# Altium footprint library User.PcbLib: 5 footprints
Each footprint in its own frame and in the unit in brackets; x right, y up, seen from the top. Pads: shape width x height; smd on the part's side, far side on the other; paste and mask are expansions set on the pad; w line width, h text height; cw(c..) or ccw(c..) is an arc to the next point about the centre after c.
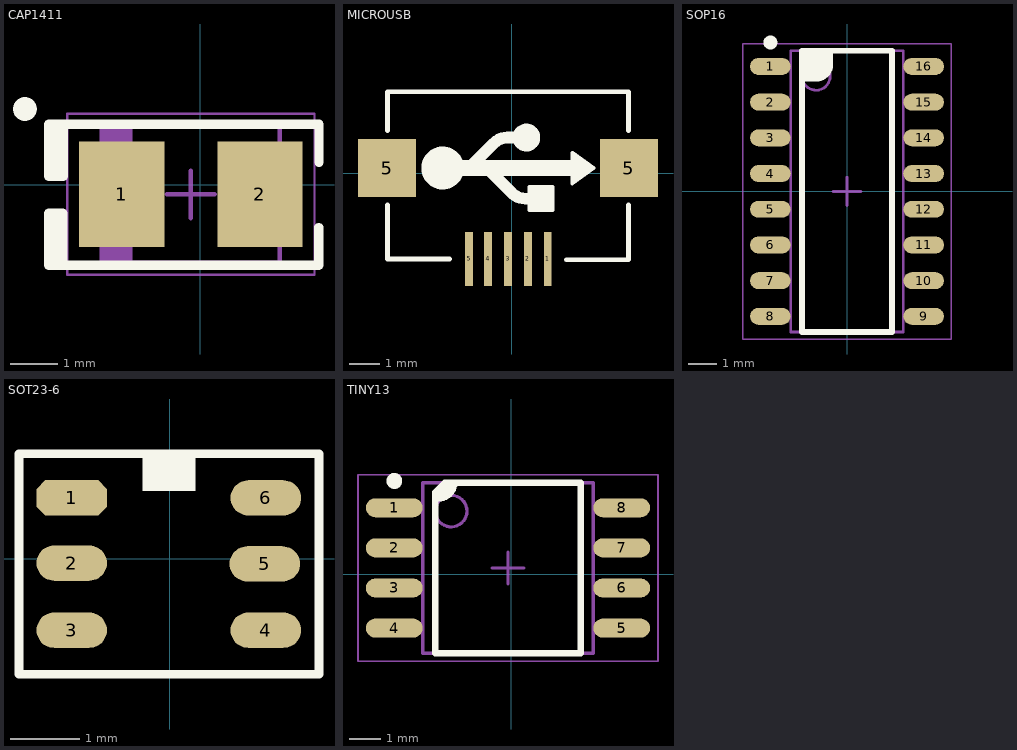
[diagram p0: the footprints below, top view; thin cyan lines are the x and y axes]

## CAP1411 [mm]
pads (2):
  rect 1.8x2.23 smd: 1(-1.66,-0.2) 2(1.26,-0.2)
Top Overlay:
  circle w0.25: c-3.7,1.6 r0.125
  region: -3.195,0.18 -3.195,1.28 -2.895,1.28 -2.895,0.18
  region: -3.2,-0.6 -3.2,-1.7 -2.9,-1.7 -2.9,-0.6
  lines w0.2: 2.5,-0.9 2.5,-1.7 -2.9,-1.7 ; 2.505,0.48 2.505,1.28 -2.895,1.28 ; -2.9,-1.7 -3.2,-1.7 -3.2,-0.6 -2.9,-0.6 -2.9,-1.7 ; -2.895,1.28 -3.195,1.28 -3.195,0.18 -2.895,0.18 -2.895,1.28
Mechanical 13:
  rectangle: -2.075,-1.65 -1.425,1.25
  lines w0.1: -2.075,-1.65 -2.075,1.25 1.675,1.25 1.675,-1.65 -2.075,-1.65
Mechanical 15:
  lines w0.05: -2.81,-1.9 -2.81,1.5 2.41,1.5 2.41,-1.9 -2.81,-1.9
  lines w0.1: -0.7,-0.2 0.3,-0.2 ; -0.2,-0.7 -0.2,0.3
3D body "CAP TANT - 1411 - 2.0MM.step": height 2, standoff 0, extent -2.065,-1.65 1.665,1.25

## MICROUSB [mil]
pads (7):
  rect 10x70 smd: 1(46.18,-110) 2(20.59,-110) 3(-5,-110) 4(-30.59,-110) 5(-55,-110)
  rect 74.8x74.8 smd: 5(-160.51,6.84) 5(150.51,6.84)
Top Overlay:
  circle w20: c18.56,46.21 r7.87
  circle w35: c-89.07,7 r10
  region: 52.03,-47.13 22.5,-47.13 22.5,-17.61 52.03,-17.61
  region: 105.18,7 77.62,-12.69 77.62,26.68
  lines w5: 22.5,-47.13 52.03,-47.13 52.03,-17.61 22.5,-17.61 22.5,-47.13 ; 77.62,-12.69 77.62,26.68 105.18,7 77.62,-12.69
  lines w6: -160,-40.2 -160,-110 -80,-110 ; -160,54.84 -160,105 150,105 150,54.84 ; 70,-111 150,-111 150,-40.2
  lines w15: -57.85,4.46 -23.48,38.83 cw(c-5.65,21) -5.65,46.21 17.5,46.21 ; -29.7,4.54 -0.17,-24.99 ccw(c17.66,-7.16) 17.66,-32.37 37.5,-32.37
  lines w20: -87.5,7 87.5,7
3D body "Micro USB.STP": height 106.7, standoff -9.04, extent -161.58,-105.49 152.59,108.29

## SOP16 [mm]
pads (16):
  oval 1.45x0.6 smd: 1(-2.732,4.442) 2(-2.732,3.172) 3(-2.732,1.902) 4(-2.732,0.632) 5(-2.732,-0.638) 6(-2.732,-1.908) 7(-2.732,-3.178) 8(-2.732,-4.448) 9(2.718,-4.448) 10(2.718,-3.178) 11(2.718,-1.908) 12(2.718,-0.638) 13(2.718,0.632) 14(2.718,1.902) 15(2.718,3.172) 16(2.718,4.442)
Top Overlay:
  circle w0.25: c-2.732,5.292 r0.125
  region: -1.607,4.997 -1.607,3.997 -1.007,3.997 -0.607,4.397 -0.607,4.997
  lines w0.2: -1.607,3.997 -1.107,3.997 ccw(c-1.107,4.497) -0.607,4.497 -0.607,4.997 ; -1.607,-5.003 -1.607,4.997 1.593,4.997 1.593,-5.003 -1.607,-5.003
Mechanical 13:
  circle w0.1: c-1.107,4.097 r0.5
  lines w0.1: -2.007,-5.003 -2.007,4.997 1.993,4.997 1.993,-5.003 -2.007,-5.003
Mechanical 15:
  lines w0.05: -3.707,-5.253 -3.707,5.247 3.693,5.247 3.693,-5.253 -3.707,-5.253
  lines w0.1: -0.507,-0.003 0.493,-0.003 ; -0.007,-0.503 -0.007,0.497
3D body "TI SOP-16 D.step": height 1.75, standoff 0, extent -3.007,-5.003 2.993,4.997

## SOT23-6 [mil]
pads (6):
  oct 40x20 smd: 1(-55.41,34.45)
  oval 40x20 smd: 2(-55.41,-2.55) 3(-55.41,-40.55) 4(54.59,-40.55) 5(54,-2.95) 6(54.59,34.45)
Top Overlay:
  rectangle: -15.41,38.39 14.59,58.07
  lines w5: -85.3,45.47 -85.3,46.47 ; -85.3,49.47 -85.3,59.47 ; -71.3,59.47 -69.3,59.47 ; -70.3,59.47 -85.3,59.47 ; -85.3,59.47 -85.3,-65.53 84.7,-65.53 84.7,59.47 -85.3,59.47
3D body "User Library-SOT23-6.step": height 51.18, standoff 0, extent -60.06,-62 58.06,56.11

## TINY13 [mm]
pads (8):
  oval 1.8x0.6 smd: 1(-3.7,2.105) 2(-3.7,0.835) 3(-3.7,-0.435) 4(-3.7,-1.705) 5(3.5,-1.705) 6(3.5,-0.435) 7(3.5,0.835) 8(3.5,2.105)
Top Overlay:
  circle w0.25: c-3.7,2.955 r0.125
  region: -2.1,2.9 -1.8,2.9 -1.8,2.801 -1.876,2.617 -2.017,2.476 -2.201,2.4 -2.3,2.4 -2.4,2.4 -2.4,2.6
  lines w0.2: -2.4,2.4 -2.3,2.4 ccw(c-2.3,2.9) -1.8,2.9 ; -2.4,-2.5 2.2,-2.5 2.2,2.9 -2.1,2.9 -2.4,2.6 -2.4,-2.5
Mechanical 13:
  circle w0.1: c-1.9,2 r0.5
  lines w0.1: -2.8,-2.5 2.6,-2.5 2.6,2.9 -2.8,2.9 -2.8,-2.5
Mechanical 15:
  lines w0.05: -4.85,-2.75 4.65,-2.75 4.65,3.15 -4.85,3.15 -4.85,-2.75
  lines w0.1: -0.6,0.2 0.4,0.2 ; -0.1,-0.3 -0.1,0.7
3D body "SO-8 208mil.STEP": height 1.5, standoff 0, extent -4.114,-2.442 3.914,2.841